# Altium footprint library CSD83325L.PcbLib: 1 footprints
Each footprint in its own frame and in the unit in brackets; x right, y up, seen from the top. Pads: shape width x height; smd on the part's side, far side on the other; paste and mask are expansions set on the pad; w line width, h text height; cw(c..) or ccw(c..) is an arc to the next point about the centre after c.
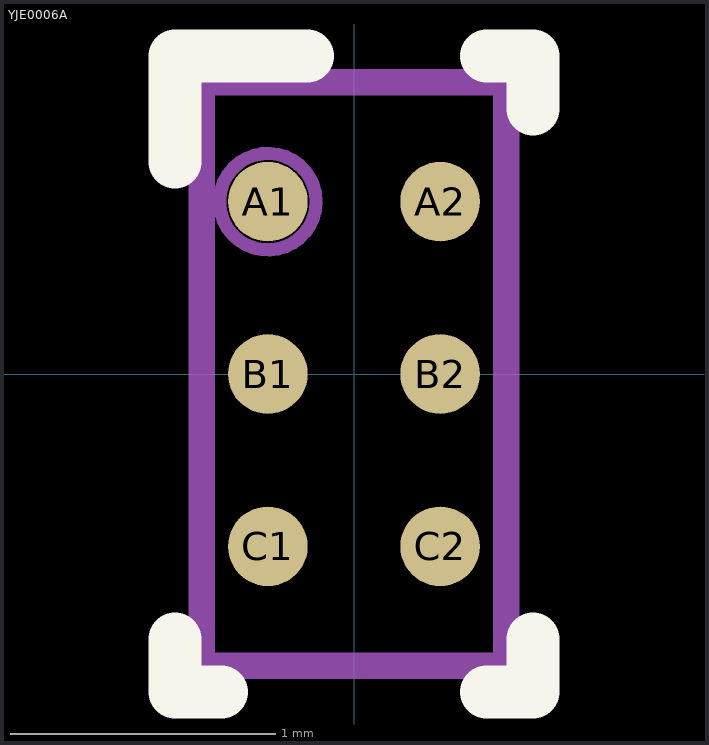
[diagram p0: the footprint, top view; thin cyan lines are the x and y axes]

## YJE0006A [mm]
pads (6):
  round 0.3 smd paste-0.137 mask+0.051: A1(-0.325,0.65) A2(0.325,0.65) B1(-0.325,0) B2(0.325,0) C1(-0.325,-0.65) C2(0.325,-0.65)
Top Overlay:
  lines w0.2: -0.675,-1 -0.675,-1.2 -0.5,-1.2 ; -0.675,0.8 -0.675,1.2 -0.175,1.2 ; 0.5,-1.2 0.675,-1.2 0.675,-1 ; 0.5,1.2 0.675,1.2 0.675,1
Top Paste:
  drawing of 78 lines, arcs and shapes, not listed
Mechanical 13:
  circle w0.05: c-0.325,0.65 r0.182
  lines w0.1: -0.575,-1.1 0.575,-1.1 0.575,1.1 -0.575,1.1 -0.575,-1.1
3D body: height 0.25, standoff 0, extent 0,0 0.254,0.254